# Altium integrated library NSC Interface.IntLib: 1288 symbols (part 9 of 45)
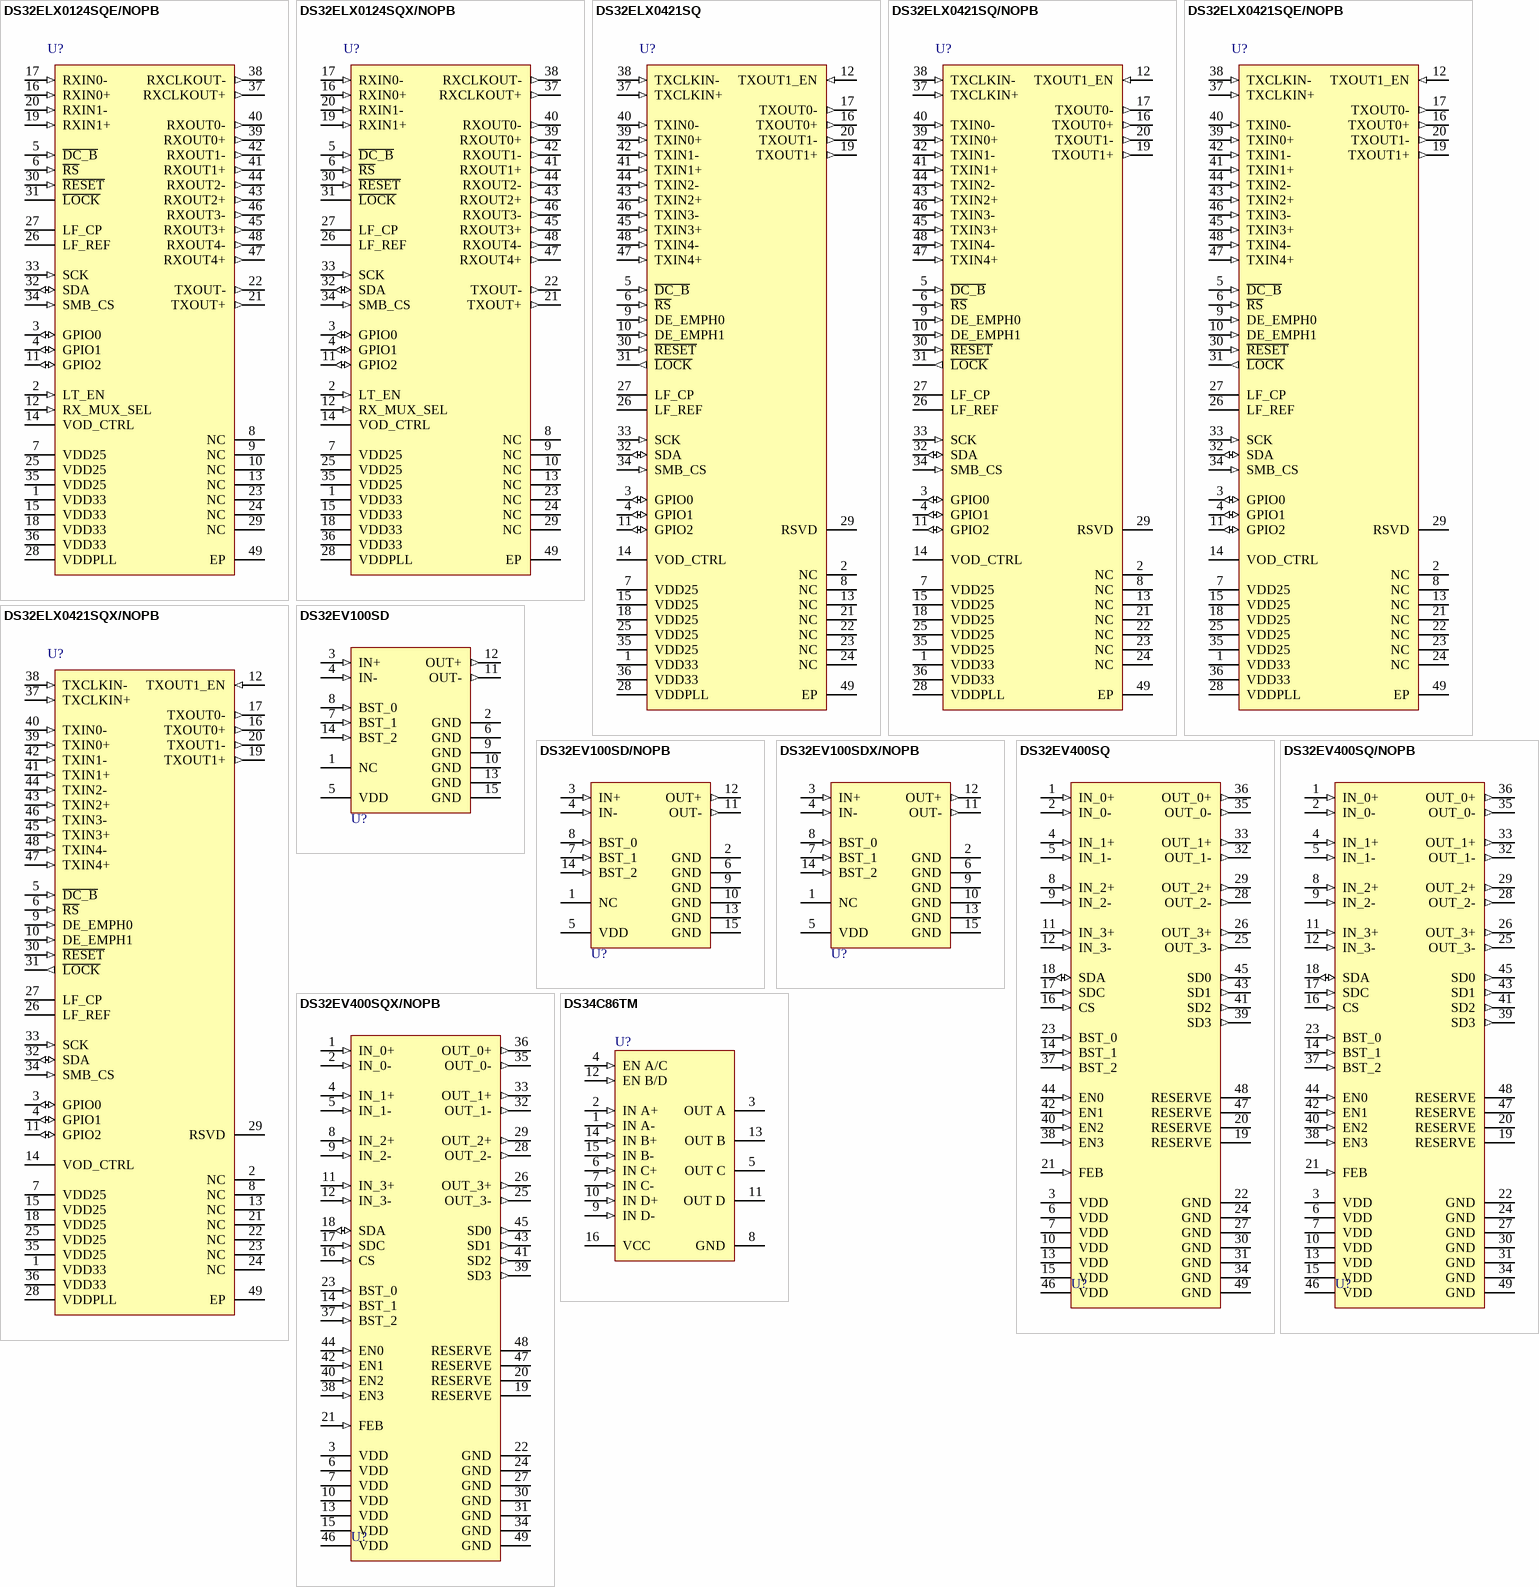
[diagram p120: symbols DS32ELX0124SQE/NOPB to DS34C86TM]

## DS32ELX0421SQ/NOPB
designator U?
125 - 312.5 MHz FPGA-Link Serializer with DDR LVDS Parallel Interface, 48-pin LLP, Pb-Free; PartNumber: DS32ELX0421SQ/NOPB; Manufacturer: National Semiconductor; PackageTopMarking: NS*UZXYTTE#*32ELX0421; PowerWise: N; CompType: Interface IC; Published: 1-Mar-2010; DatasheetVersion: Jul-2008; PackageVersion: revB, May-2009; PackageReference: SQA48A; Publisher: Altium Limited; PackageDescription: LLP, Plastic, Quad, 7 x 7 x 0.8mm Body, 48 Lead, 0.5mm Pitch, No Pullback; Supplier 1: Digi-Key; Supplier Part Number 1: DS32ELX0421SQ-ND; RoHS: Y; PinCount: 48; Code_JEDEC: MO-220-WKKD-2; ComponentLink1Description: DS32ELX0421 Datasheet; ComponentLink1URL: http://www.national.com/ds/DS/DS32ELX0421.pdf; ComponentLink2Description: DS32ELX0421 Web Page; ComponentLink2URL: http://www.national.com/pf/DS/DS32ELX0421.html; ComponentLink3Description: SQA48A Package Page; ComponentLink3URL: http://www.national.com/packaging/folders/sqa48a.html
footprint SQA48A (QFN, 48-Leads, Body 7x7mm, Pitch 0.5mm, NSC Recommended)
pins: 1 VDD33 (power), 2 NC, 3 GPIO0 (io), 4 GPIO1 (io), 5 ~{DC_B} (in), 6 ~{RS} (in), 7 VDD25 (power), 8 NC, 9 DE_EMPH0 (in), 10 DE_EMPH1 (in), 11 GPIO2 (io), 12 TXOUT1_EN (in), 13 NC, 14 VOD_CTRL, 15 VDD25 (power), 16 TXOUT0+ (out), 17 TXOUT0- (out), 18 VDD25 (power), 19 TXOUT1+ (out), 20 TXOUT1- (out), 21 NC, 22 NC, 23 NC, 24 NC, 25 VDD25 (power), 26 LF_REF, 27 LF_CP, 28 VDDPLL (power), 29 RSVD, 30 ~{RESET} (in), 31 ~{LOCK} (out), 32 SDA (io), 33 SCK (in), 34 SMB_CS (in), 35 VDD25 (power), 36 VDD33 (power), 37 TXCLKIN+ (in), 38 TXCLKIN- (in), 39 TXIN0+ (in), 40 TXIN0- (in), 41 TXIN1+ (in), 42 TXIN1- (in), 43 TXIN2+ (in), 44 TXIN2- (in), 45 TXIN3+ (in), 46 TXIN3- (in), 47 TXIN4+ (in), 48 TXIN4- (in), 49 EP (power)

## DS32ELX0421SQE/NOPB
designator U?
125 - 312.5 MHz FPGA-Link Serializer with DDR LVDS Parallel Interface, 48-pin LLP, Pb-Free; PartNumber: DS32ELX0421SQE/NOPB; Manufacturer: National Semiconductor; PackageTopMarking: NS*UZXYTTE#*32ELX0421; PowerWise: N; CompType: Interface IC; Published: 1-Mar-2010; DatasheetVersion: Jul-2008; PackageVersion: revB, May-2009; PackageReference: SQA48A; Publisher: Altium Limited; PackageDescription: LLP, Plastic, Quad, 7 x 7 x 0.8mm Body, 48 Lead, 0.5mm Pitch, No Pullback; Supplier 1: Digi-Key; Supplier Part Number 1: DS32ELX0421SQETR-ND; Supplier 2: Digi-Key; Supplier Part Number 2: DS32ELX0421SQECT-ND; Supplier 3: Digi-Key; Supplier Part Number 3: DS32ELX0421SQEDKR-ND; RoHS: Y; PinCount: 48; Code_JEDEC: MO-220-WKKD-2; ComponentLink1Description: DS32ELX0421 Datasheet; ComponentLink1URL: http://www.national.com/ds/DS/DS32ELX0421.pdf; ComponentLink2Description: DS32ELX0421 Web Page; ComponentLink2URL: http://www.national.com/pf/DS/DS32ELX0421.html; ComponentLink3Description: SQA48A Package Page; ComponentLink3URL: http://www.national.com/packaging/folders/sqa48a.html
footprint SQA48A (QFN, 48-Leads, Body 7x7mm, Pitch 0.5mm, NSC Recommended)
pins: 1 VDD33 (power), 2 NC, 3 GPIO0 (io), 4 GPIO1 (io), 5 ~{DC_B} (in), 6 ~{RS} (in), 7 VDD25 (power), 8 NC, 9 DE_EMPH0 (in), 10 DE_EMPH1 (in), 11 GPIO2 (io), 12 TXOUT1_EN (in), 13 NC, 14 VOD_CTRL, 15 VDD25 (power), 16 TXOUT0+ (out), 17 TXOUT0- (out), 18 VDD25 (power), 19 TXOUT1+ (out), 20 TXOUT1- (out), 21 NC, 22 NC, 23 NC, 24 NC, 25 VDD25 (power), 26 LF_REF, 27 LF_CP, 28 VDDPLL (power), 29 RSVD, 30 ~{RESET} (in), 31 ~{LOCK} (out), 32 SDA (io), 33 SCK (in), 34 SMB_CS (in), 35 VDD25 (power), 36 VDD33 (power), 37 TXCLKIN+ (in), 38 TXCLKIN- (in), 39 TXIN0+ (in), 40 TXIN0- (in), 41 TXIN1+ (in), 42 TXIN1- (in), 43 TXIN2+ (in), 44 TXIN2- (in), 45 TXIN3+ (in), 46 TXIN3- (in), 47 TXIN4+ (in), 48 TXIN4- (in), 49 EP (power)

## DS32ELX0421SQX/NOPB
designator U?
125 - 312.5 MHz FPGA-Link Serializer with DDR LVDS Parallel Interface, 48-pin LLP, Pb-Free; PartNumber: DS32ELX0421SQX/NOPB; Manufacturer: National Semiconductor; PackageTopMarking: NS*UZXYTTE#*32ELX0421; PowerWise: N; CompType: Interface IC; Published: 1-Mar-2010; DatasheetVersion: Jul-2008; PackageVersion: revB, May-2009; PackageReference: SQA48A; Publisher: Altium Limited; PackageDescription: LLP, Plastic, Quad, 7 x 7 x 0.8mm Body, 48 Lead, 0.5mm Pitch, No Pullback; Supplier 1: Digi-Key; Supplier Part Number 1: DS32ELX0421SQX-ND; RoHS: Y; PinCount: 48; Code_JEDEC: MO-220-WKKD-2; ComponentLink1Description: DS32ELX0421 Datasheet; ComponentLink1URL: http://www.national.com/ds/DS/DS32ELX0421.pdf; ComponentLink2Description: DS32ELX0421 Web Page; ComponentLink2URL: http://www.national.com/pf/DS/DS32ELX0421.html; ComponentLink3Description: SQA48A Package Page; ComponentLink3URL: http://www.national.com/packaging/folders/sqa48a.html
footprint SQA48A (QFN, 48-Leads, Body 7x7mm, Pitch 0.5mm, NSC Recommended)
pins: 1 VDD33 (power), 2 NC, 3 GPIO0 (io), 4 GPIO1 (io), 5 ~{DC_B} (in), 6 ~{RS} (in), 7 VDD25 (power), 8 NC, 9 DE_EMPH0 (in), 10 DE_EMPH1 (in), 11 GPIO2 (io), 12 TXOUT1_EN (in), 13 NC, 14 VOD_CTRL, 15 VDD25 (power), 16 TXOUT0+ (out), 17 TXOUT0- (out), 18 VDD25 (power), 19 TXOUT1+ (out), 20 TXOUT1- (out), 21 NC, 22 NC, 23 NC, 24 NC, 25 VDD25 (power), 26 LF_REF, 27 LF_CP, 28 VDDPLL (power), 29 RSVD, 30 ~{RESET} (in), 31 ~{LOCK} (out), 32 SDA (io), 33 SCK (in), 34 SMB_CS (in), 35 VDD25 (power), 36 VDD33 (power), 37 TXCLKIN+ (in), 38 TXCLKIN- (in), 39 TXIN0+ (in), 40 TXIN0- (in), 41 TXIN1+ (in), 42 TXIN1- (in), 43 TXIN2+ (in), 44 TXIN2- (in), 45 TXIN3+ (in), 46 TXIN3- (in), 47 TXIN4+ (in), 48 TXIN4- (in), 49 EP (power)

## DS32EV100SD
designator U?
Programmable Single Equalizer, 14-pin LLP; PartNumber: DS32EV100SD; Manufacturer: National Semiconductor; PackageTopMarking: ZXYTT*D32E1SD; PowerWise: N; CompType: Interface IC; Published: 4-Dec-2008; DatasheetVersion: Aug-2009; PackageVersion: revA, Jun-2003; PackageReference: SDA14A; Publisher: Altium Limited; PackageDescription: LLP, Plastic, Dual, 4 x 3 x 0.8mm Body, 14 Lead, 0.5mm Pitch, No Pullback; RoHS: Y; PinCount: 14; ComponentLink1Description: DS32EV100 Datasheet; ComponentLink1URL: http://www.national.com/ds/DS/DS32EV100.pdf; ComponentLink2Description: DS32EV100 Web Page; ComponentLink2URL: http://www.national.com/pf/DS/DS32EV100.html; ComponentLink3Description: SDA14A Package Page; ComponentLink3URL: http://www.national.com/packaging/folders/sda14a.html
footprint SDA14A (SON, 14-Leads, Body 4x3mm, Pitch 0.5mm, NSC Recommended)
pins: 1 NC, 2 GND (power), 3 IN+ (in), 4 IN- (in), 5 VDD (power), 6 GND (power), 7 BST_1 (in), 8 BST_0 (in), 9 GND (power), 10 GND (power), 11 OUT- (out), 12 OUT+ (out), 13 GND (power), 14 BST_2 (in), 15 GND (power)

## DS32EV100SD/NOPB
designator U?
Programmable Single Equalizer, 14-pin LLP, Pb-Free; PartNumber: DS32EV100SD/NOPB; Manufacturer: National Semiconductor; PowerWise: N; CompType: Interface IC; Published: 1-Mar-2010; DatasheetVersion: Aug-2009; PackageVersion: revA, Jun-2003; PackageReference: SDA14A; Publisher: Altium Limited; PackageDescription: LLP, Plastic, Dual, 4 x 3 x 0.8mm Body, 14 Lead, 0.5mm Pitch, No Pullback; Supplier 1: Digi-Key; Supplier Part Number 1: DS32EV100SDTR-ND; Supplier 2: Digi-Key; Supplier Part Number 2: DS32EV100SDCT-ND; Supplier 3: Digi-Key; Supplier Part Number 3: DS32EV100SDDKR-ND; RoHS: Y; PinCount: 14; ComponentLink1Description: DS32EV100 Datasheet; ComponentLink1URL: http://www.national.com/ds/DS/DS32EV100.pdf; ComponentLink2Description: DS32EV100 Web Page; ComponentLink2URL: http://www.national.com/pf/DS/DS32EV100.html; ComponentLink3Description: SDA14A Package Page; ComponentLink3URL: http://www.national.com/packaging/folders/sda14a.html
footprint SDA14A (SON, 14-Leads, Body 4x3mm, Pitch 0.5mm, NSC Recommended)
pins: 1 NC, 2 GND (power), 3 IN+ (in), 4 IN- (in), 5 VDD (power), 6 GND (power), 7 BST_1 (in), 8 BST_0 (in), 9 GND (power), 10 GND (power), 11 OUT- (out), 12 OUT+ (out), 13 GND (power), 14 BST_2 (in), 15 GND (power)

## DS32EV100SDX/NOPB
designator U?
Programmable Single Equalizer, 14-pin LLP, Pb-Free; PartNumber: DS32EV100SDX/NOPB; Manufacturer: National Semiconductor; PowerWise: N; CompType: Interface IC; Published: 1-Mar-2010; DatasheetVersion: Aug-2009; PackageVersion: revA, Jun-2003; PackageReference: SDA14A; Publisher: Altium Limited; PackageDescription: LLP, Plastic, Dual, 4 x 3 x 0.8mm Body, 14 Lead, 0.5mm Pitch, No Pullback; Supplier 1: Digi-Key; Supplier Part Number 1: DS32EV100SDX-ND; RoHS: Y; PinCount: 14; ComponentLink1Description: DS32EV100 Datasheet; ComponentLink1URL: http://www.national.com/ds/DS/DS32EV100.pdf; ComponentLink2Description: DS32EV100 Web Page; ComponentLink2URL: http://www.national.com/pf/DS/DS32EV100.html; ComponentLink3Description: SDA14A Package Page; ComponentLink3URL: http://www.national.com/packaging/folders/sda14a.html
footprint SDA14A (SON, 14-Leads, Body 4x3mm, Pitch 0.5mm, NSC Recommended)
pins: 1 NC, 2 GND (power), 3 IN+ (in), 4 IN- (in), 5 VDD (power), 6 GND (power), 7 BST_1 (in), 8 BST_0 (in), 9 GND (power), 10 GND (power), 11 OUT- (out), 12 OUT+ (out), 13 GND (power), 14 BST_2 (in), 15 GND (power)

## DS32EV400SQ
designator U?
Programmable Quad Equalizer, 48-pin LLP; PartNumber: DS32EV400SQ; Manufacturer: National Semiconductor; PackageTopMarking: NS*UZXYTT*DS32EV400; PowerWise: Y; CompType: Interface IC; Published: 4-Dec-2008; DatasheetVersion: Oct-2009; PackageVersion: revA, Jul-2004; PackageReference: SQA48D; Publisher: Altium Limited; PackageDescription: LLP, Quad, 7 x 7 x 0.8mm, 48 Lead, 0.5mm Pitch, 4.1 x 4.1 Exposed Pad; RoHS: Y; PinCount: 48; ComponentLink1Description: DS32EV400 Datasheet; ComponentLink1URL: http://www.national.com/ds/DS/DS32EV400.pdf; ComponentLink2Description: DS32EV400 Web Page; ComponentLink2URL: http://www.national.com/pf/DS/DS32EV400.html; ComponentLink3Description: SQA48D Package Page; ComponentLink3URL: http://www.national.com/packaging/folders/sqa48d.html
footprint SQA48D (QFN, 48-Leads, Body 7x7mm, Pitch 0.5mm, NSC Recommended)
pins: 1 IN_0+ (in), 2 IN_0- (in), 3 VDD (power), 4 IN_1+ (in), 5 IN_1- (in), 6 VDD (power), 7 VDD (power), 8 IN_2+ (in), 9 IN_2- (in), 10 VDD (power), 11 IN_3+ (in), 12 IN_3- (in), 13 VDD (power), 14 BST_1 (in), 15 VDD (power), 16 CS (in), 17 SDC (in), 18 SDA (io), 19 RESERVE, 20 RESERVE, 21 FEB (in), 22 GND (power), 23 BST_0 (in), 24 GND (power), 25 OUT_3- (out), 26 OUT_3+ (out), 27 GND (power), 28 OUT_2- (out), 29 OUT_2+ (out), 30 GND (power), 31 GND (power), 32 OUT_1- (out), 33 OUT_1+ (out), 34 GND (power), 35 OUT_0- (out), 36 OUT_0+ (out), 37 BST_2 (in), 38 EN3 (in), 39 SD3 (out), 40 EN2 (in), 41 SD2 (out), 42 EN1 (in), 43 SD1 (out), 44 EN0 (in), 45 SD0 (out), 46 VDD (power), 47 RESERVE, 48 RESERVE, 49 GND (power)

## DS32EV400SQ/NOPB
designator U?
DisplayPort Quad Equalizer, 48-pin LLP, Pb-Free; PartNumber: DS32EV400SQ/NOPB; Manufacturer: National Semiconductor; PackageTopMarking: NS*UZXYTTE#*DS32EV400; PowerWise: Y; CompType: Interface IC; Published: 1-Mar-2010; DatasheetVersion: Oct-2009; PackageVersion: revA, Jul-2004; PackageReference: SQA48D; Publisher: Altium Limited; PackageDescription: LLP, Quad, 7 x 7 x 0.8mm, 48 Lead, 0.5mm Pitch, 4.1 x 4.1 Exposed Pad; Supplier 1: Digi-Key; Supplier Part Number 1: DS32EV400SQTR-ND; Supplier 2: Digi-Key; Supplier Part Number 2: DS32EV400SQCT-ND; Supplier 3: Digi-Key; Supplier Part Number 3: DS32EV400SQDKR-ND; Supplier 4: Farnell; Supplier Part Number 4: 1685566; RoHS: Y; PinCount: 48; ComponentLink1Description: DS32EV400 Datasheet; ComponentLink1URL: http://www.national.com/ds/DS/DS32EV400.pdf; ComponentLink2Description: DS32EV400 Web Page; ComponentLink2URL: http://www.national.com/pf/DS/DS32EV400.html; ComponentLink3Description: SQA48D Package Page; ComponentLink3URL: http://www.national.com/packaging/folders/sqa48d.html
footprint SQA48D (QFN, 48-Leads, Body 7x7mm, Pitch 0.5mm, NSC Recommended)
pins: 1 IN_0+ (in), 2 IN_0- (in), 3 VDD (power), 4 IN_1+ (in), 5 IN_1- (in), 6 VDD (power), 7 VDD (power), 8 IN_2+ (in), 9 IN_2- (in), 10 VDD (power), 11 IN_3+ (in), 12 IN_3- (in), 13 VDD (power), 14 BST_1 (in), 15 VDD (power), 16 CS (in), 17 SDC (in), 18 SDA (io), 19 RESERVE, 20 RESERVE, 21 FEB (in), 22 GND (power), 23 BST_0 (in), 24 GND (power), 25 OUT_3- (out), 26 OUT_3+ (out), 27 GND (power), 28 OUT_2- (out), 29 OUT_2+ (out), 30 GND (power), 31 GND (power), 32 OUT_1- (out), 33 OUT_1+ (out), 34 GND (power), 35 OUT_0- (out), 36 OUT_0+ (out), 37 BST_2 (in), 38 EN3 (in), 39 SD3 (out), 40 EN2 (in), 41 SD2 (out), 42 EN1 (in), 43 SD1 (out), 44 EN0 (in), 45 SD0 (out), 46 VDD (power), 47 RESERVE, 48 RESERVE, 49 GND (power)

## DS32EV400SQX/NOPB
designator U?
DisplayPort Quad Equalizer, 48-pin LLP, Pb-Free; PartNumber: DS32EV400SQX/NOPB; Manufacturer: National Semiconductor; PackageTopMarking: NS*UZXYTTE#*DS32EV400; PowerWise: Y; CompType: Interface IC; Published: 1-Mar-2010; DatasheetVersion: Oct-2009; PackageVersion: revA, Jul-2004; PackageReference: SQA48D; Publisher: Altium Limited; PackageDescription: LLP, Quad, 7 x 7 x 0.8mm, 48 Lead, 0.5mm Pitch, 4.1 x 4.1 Exposed Pad; Supplier 1: Digi-Key; Supplier Part Number 1: DS32EV400SQX-ND; RoHS: Y; PinCount: 48; ComponentLink1Description: DS32EV400 Datasheet; ComponentLink1URL: http://www.national.com/ds/DS/DS32EV400.pdf; ComponentLink2Description: DS32EV400 Web Page; ComponentLink2URL: http://www.national.com/pf/DS/DS32EV400.html; ComponentLink3Description: SQA48D Package Page; ComponentLink3URL: http://www.national.com/packaging/folders/sqa48d.html
footprint SQA48D (QFN, 48-Leads, Body 7x7mm, Pitch 0.5mm, NSC Recommended)
pins: 1 IN_0+ (in), 2 IN_0- (in), 3 VDD (power), 4 IN_1+ (in), 5 IN_1- (in), 6 VDD (power), 7 VDD (power), 8 IN_2+ (in), 9 IN_2- (in), 10 VDD (power), 11 IN_3+ (in), 12 IN_3- (in), 13 VDD (power), 14 BST_1 (in), 15 VDD (power), 16 CS (in), 17 SDC (in), 18 SDA (io), 19 RESERVE, 20 RESERVE, 21 FEB (in), 22 GND (power), 23 BST_0 (in), 24 GND (power), 25 OUT_3- (out), 26 OUT_3+ (out), 27 GND (power), 28 OUT_2- (out), 29 OUT_2+ (out), 30 GND (power), 31 GND (power), 32 OUT_1- (out), 33 OUT_1+ (out), 34 GND (power), 35 OUT_0- (out), 36 OUT_0+ (out), 37 BST_2 (in), 38 EN3 (in), 39 SD3 (out), 40 EN2 (in), 41 SD2 (out), 42 EN1 (in), 43 SD1 (out), 44 EN0 (in), 45 SD0 (out), 46 VDD (power), 47 RESERVE, 48 RESERVE, 49 GND (power)

## DS34C86TM
designator U?
Quad CMOS Differential Line Receiver, 16-pin Narrow SOIC; PartNumber: DS34C86TM; Manufacturer: National Semiconductor; PackageTopMarking: NSUZXYTTE#*DS34C86TM; PowerWise: N; CompType: Interface IC; Published: 4-Dec-2008; DatasheetVersion: Jun-1998; PackageVersion: revJ, Aug-1995; PackageReference: M16A; Publisher: Altium Limited; PackageDescription: Molded Package, SO, .150in Wide, 16 Lead; Supplier 1: Farnell; Supplier Part Number 1: 9487980; RoHS: N; PinCount: 16; Code_JEDEC: MS-012-AC; Code_IPC: SOIC127P600-16; ComponentLink1Description: DS34C86T Datasheet; ComponentLink1URL: http://www.national.com/ds/DS/DS34C86T.pdf; ComponentLink2Description: DS34C86T Web Page; ComponentLink2URL: http://www.national.com/pf/DS/DS34C86T.html; ComponentLink3Description: M16A Package Page; ComponentLink3URL: http://www.national.com/packaging/folders/m16a.html
footprint M16A_N (SOIC, 16-Leads, Body 9.9x3.9mm, Pitch 1.27mm, IPC Medium Density)
footprint M16A_L (SOIC, 16-Leads, Body 9.9x3.9mm, Pitch 1.27mm, IPC High Density)
footprint M16A_M (SOIC, 16-Leads, Body 9.9x3.9mm, Pitch 1.27mm, IPC Low Density)
pins: 1 IN A- (in), 2 IN A+ (in), 3 OUT A (hiz), 4 EN A/C (in), 5 OUT C (hiz), 6 IN C+ (in), 7 IN C- (in), 8 GND (power), 9 IN D- (in), 10 IN D+ (in), 11 OUT D (hiz), 12 EN B/D (in), 13 OUT B (hiz), 14 IN B+ (in), 15 IN B- (in), 16 VCC (power)

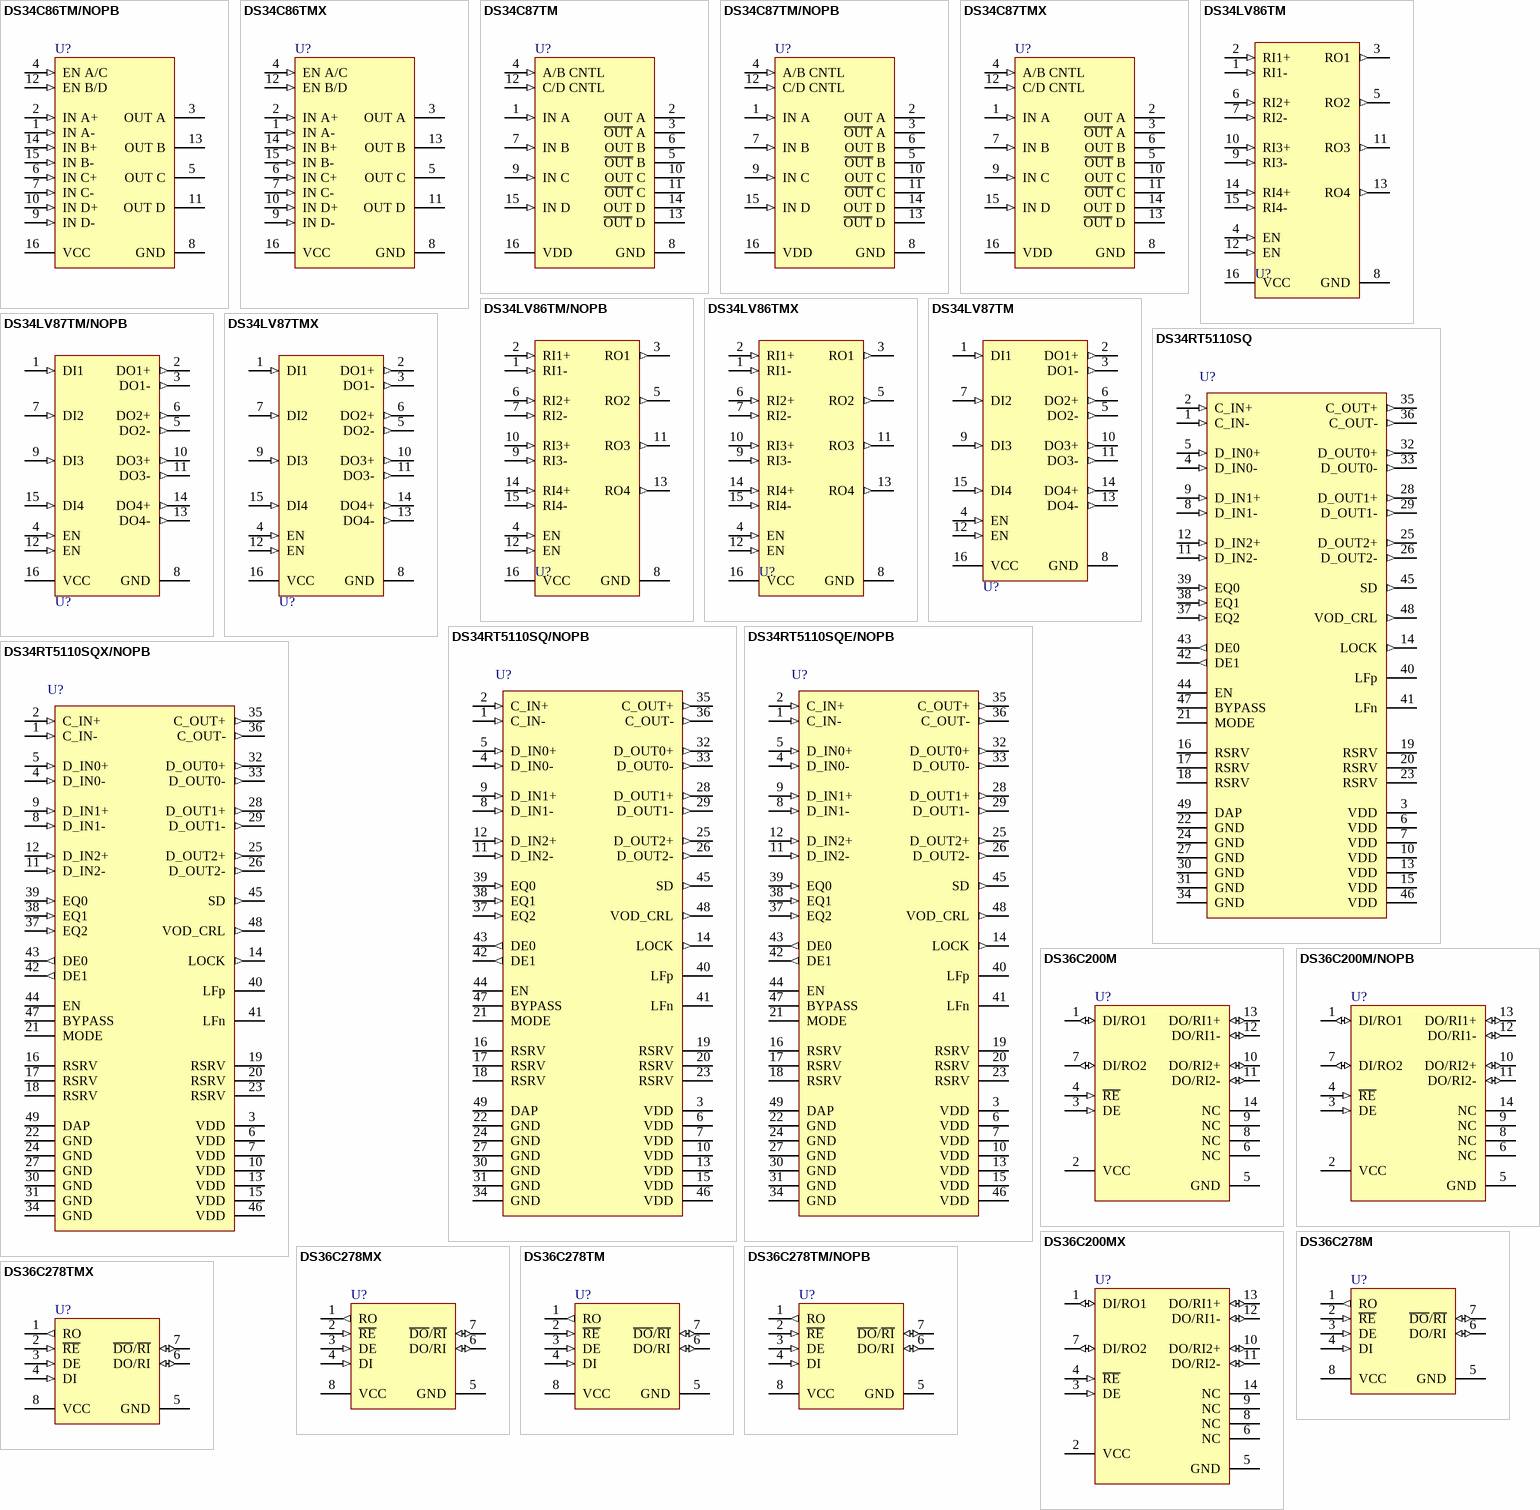
[diagram p22: symbols DS34C86TM/NOPB to DS36C278TMX]

## DS34C86TM/NOPB
designator U?
Quad CMOS Differential Line Receiver, 16-pin Narrow SOIC, Pb-Free; PartNumber: DS34C86TM/NOPB; Manufacturer: National Semiconductor; PackageTopMarking: NSUZXYTTE#*DS34C86TM; PowerWise: N; CompType: Interface IC; Published: 1-Mar-2010; DatasheetVersion: Jun-1998; PackageVersion: revJ, Aug-1995; PackageReference: M16A; Publisher: Altium Limited; PackageDescription: Molded Package, SO, .150in Wide, 16 Lead; Supplier 1: Digi-Key; Supplier Part Number 1: DS34C86TM-ND; Supplier 2: Farnell; Supplier Part Number 2: 1149950; RoHS: Y; PinCount: 16; Code_JEDEC: MS-012-AC; Code_IPC: SOIC127P600-16; ComponentLink1Description: DS34C86T Datasheet; ComponentLink1URL: http://www.national.com/ds/DS/DS34C86T.pdf; ComponentLink2Description: DS34C86T Web Page; ComponentLink2URL: http://www.national.com/pf/DS/DS34C86T.html; ComponentLink3Description: M16A Package Page; ComponentLink3URL: http://www.national.com/packaging/folders/m16a.html
footprint M16A_N (SOIC, 16-Leads, Body 9.9x3.9mm, Pitch 1.27mm, IPC Medium Density)
footprint M16A_L (SOIC, 16-Leads, Body 9.9x3.9mm, Pitch 1.27mm, IPC High Density)
footprint M16A_M (SOIC, 16-Leads, Body 9.9x3.9mm, Pitch 1.27mm, IPC Low Density)
pins: 1 IN A- (in), 2 IN A+ (in), 3 OUT A (hiz), 4 EN A/C (in), 5 OUT C (hiz), 6 IN C+ (in), 7 IN C- (in), 8 GND (power), 9 IN D- (in), 10 IN D+ (in), 11 OUT D (hiz), 12 EN B/D (in), 13 OUT B (hiz), 14 IN B+ (in), 15 IN B- (in), 16 VCC (power)

## DS34C86TMX
designator U?
Quad CMOS Differential Line Receiver, 16-pin Narrow SOIC; PartNumber: DS34C86TMX; Manufacturer: National Semiconductor; PackageTopMarking: NSUZXYTTE#*DS34C86TM; PowerWise: N; CompType: Interface IC; Published: 1-Mar-2010; DatasheetVersion: Jun-1998; PackageVersion: revJ, Aug-1995; PackageReference: M16A; Publisher: Altium Limited; PackageDescription: Molded Package, SO, .150in Wide, 16 Lead; RoHS: N; PinCount: 16; Code_JEDEC: MS-012-AC; Code_IPC: SOIC127P600-16; ComponentLink1Description: DS34C86T Datasheet; ComponentLink1URL: http://www.national.com/ds/DS/DS34C86T.pdf; ComponentLink2Description: DS34C86T Web Page; ComponentLink2URL: http://www.national.com/pf/DS/DS34C86T.html; ComponentLink3Description: M16A Package Page; ComponentLink3URL: http://www.national.com/packaging/folders/m16a.html
footprint M16A_N (SOIC, 16-Leads, Body 9.9x3.9mm, Pitch 1.27mm, IPC Medium Density)
footprint M16A_L (SOIC, 16-Leads, Body 9.9x3.9mm, Pitch 1.27mm, IPC High Density)
footprint M16A_M (SOIC, 16-Leads, Body 9.9x3.9mm, Pitch 1.27mm, IPC Low Density)
pins: 1 IN A- (in), 2 IN A+ (in), 3 OUT A (hiz), 4 EN A/C (in), 5 OUT C (hiz), 6 IN C+ (in), 7 IN C- (in), 8 GND (power), 9 IN D- (in), 10 IN D+ (in), 11 OUT D (hiz), 12 EN B/D (in), 13 OUT B (hiz), 14 IN B+ (in), 15 IN B- (in), 16 VCC (power)

## DS34C87TM
designator U?
CMOS Quad Tri-State Differential Line Driver, 16-pin Narrow SOIC; PartNumber: DS34C87TM; Manufacturer: National Semiconductor; PackageTopMarking: NSUZXYTTE#*DS34C87TM; PowerWise: N; CompType: Interface IC; Published: 4-Dec-2008; DatasheetVersion: Apr-2002; PackageVersion: revJ, Aug-1995; PackageReference: M16A; Publisher: Altium Limited; PackageDescription: Molded Package, SO, .150in Wide, 16 Lead; Supplier 1: Farnell; Supplier Part Number 1: 9487875; RoHS: N; PinCount: 16; Code_JEDEC: MS-012-AC; Code_IPC: SOIC127P600-16; ComponentLink1Description: DS34C87T Datasheet; ComponentLink1URL: http://www.national.com/ds/DS/DS34C87T.pdf; ComponentLink2Description: DS34C87T Web Page; ComponentLink2URL: http://www.national.com/pf/DS/DS34C87T.html; ComponentLink3Description: M16A Package Page; ComponentLink3URL: http://www.national.com/packaging/folders/m16a.html
footprint M16A_N (SOIC, 16-Leads, Body 9.9x3.9mm, Pitch 1.27mm, IPC Medium Density)
footprint M16A_L (SOIC, 16-Leads, Body 9.9x3.9mm, Pitch 1.27mm, IPC High Density)
footprint M16A_M (SOIC, 16-Leads, Body 9.9x3.9mm, Pitch 1.27mm, IPC Low Density)
pins: 1 IN A (in), 2 OUT A (hiz), 3 ~{OUT} A (hiz), 4 A/B CNTL (in), 5 ~{OUT} B (hiz), 6 OUT B (hiz), 7 IN B (in), 8 GND (power), 9 IN C (in), 10 OUT C (hiz), 11 ~{OUT} C (hiz), 12 C/D CNTL (in), 13 ~{OUT} D (hiz), 14 OUT D (hiz), 15 IN D (in), 16 VDD (power)

## DS34C87TM/NOPB
designator U?
CMOS Quad Tri-State Differential Line Driver, 16-pin Narrow SOIC, Pb-Free; PartNumber: DS34C87TM/NOPB; Manufacturer: National Semiconductor; PackageTopMarking: NSUZXYTTE#*DS34C87TM; PowerWise: N; CompType: Interface IC; Published: 1-Mar-2010; DatasheetVersion: Apr-2002; PackageVersion: revJ, Aug-1995; PackageReference: M16A; Publisher: Altium Limited; PackageDescription: Molded Package, SO, .150in Wide, 16 Lead; Supplier 1: Digi-Key; Supplier Part Number 1: DS34C87TM-ND; Supplier 2: Farnell; Supplier Part Number 2: 1564611; RoHS: Y; PinCount: 16; Code_JEDEC: MS-012-AC; Code_IPC: SOIC127P600-16; ComponentLink1Description: DS34C87T Datasheet; ComponentLink1URL: http://www.national.com/ds/DS/DS34C87T.pdf; ComponentLink2Description: DS34C87T Web Page; ComponentLink2URL: http://www.national.com/pf/DS/DS34C87T.html; ComponentLink3Description: M16A Package Page; ComponentLink3URL: http://www.national.com/packaging/folders/m16a.html
footprint M16A_N (SOIC, 16-Leads, Body 9.9x3.9mm, Pitch 1.27mm, IPC Medium Density)
footprint M16A_L (SOIC, 16-Leads, Body 9.9x3.9mm, Pitch 1.27mm, IPC High Density)
footprint M16A_M (SOIC, 16-Leads, Body 9.9x3.9mm, Pitch 1.27mm, IPC Low Density)
pins: 1 IN A (in), 2 OUT A (hiz), 3 ~{OUT} A (hiz), 4 A/B CNTL (in), 5 ~{OUT} B (hiz), 6 OUT B (hiz), 7 IN B (in), 8 GND (power), 9 IN C (in), 10 OUT C (hiz), 11 ~{OUT} C (hiz), 12 C/D CNTL (in), 13 ~{OUT} D (hiz), 14 OUT D (hiz), 15 IN D (in), 16 VDD (power)

## DS34C87TMX
designator U?
CMOS Quad Tri-State Differential Line Driver, 16-pin Narrow SOIC; PartNumber: DS34C87TMX; Manufacturer: National Semiconductor; PackageTopMarking: NSUZXYTTE#*DS34C87TM; PowerWise: N; CompType: Interface IC; Published: 1-Mar-2010; DatasheetVersion: Apr-2002; PackageVersion: revJ, Aug-1995; PackageReference: M16A; Publisher: Altium Limited; PackageDescription: Molded Package, SO, .150in Wide, 16 Lead; RoHS: N; PinCount: 16; Code_JEDEC: MS-012-AC; Code_IPC: SOIC127P600-16; ComponentLink1Description: DS34C87T Datasheet; ComponentLink1URL: http://www.national.com/ds/DS/DS34C87T.pdf; ComponentLink2Description: DS34C87T Web Page; ComponentLink2URL: http://www.national.com/pf/DS/DS34C87T.html; ComponentLink3Description: M16A Package Page; ComponentLink3URL: http://www.national.com/packaging/folders/m16a.html
footprint M16A_N (SOIC, 16-Leads, Body 9.9x3.9mm, Pitch 1.27mm, IPC Medium Density)
footprint M16A_L (SOIC, 16-Leads, Body 9.9x3.9mm, Pitch 1.27mm, IPC High Density)
footprint M16A_M (SOIC, 16-Leads, Body 9.9x3.9mm, Pitch 1.27mm, IPC Low Density)
pins: 1 IN A (in), 2 OUT A (hiz), 3 ~{OUT} A (hiz), 4 A/B CNTL (in), 5 ~{OUT} B (hiz), 6 OUT B (hiz), 7 IN B (in), 8 GND (power), 9 IN C (in), 10 OUT C (hiz), 11 ~{OUT} C (hiz), 12 C/D CNTL (in), 13 ~{OUT} D (hiz), 14 OUT D (hiz), 15 IN D (in), 16 VDD (power)

## DS34LV86TM
designator U?
3V Enhanced CMOS Quad Differential Line Receiver, 16-pin Narrow SOIC; PartNumber: DS34LV86TM; Manufacturer: National Semiconductor; PackageTopMarking: NSUZXYTTE#*DS34LV86*TM; PowerWise: N; CompType: Interface IC; Published: 4-Dec-2008; DatasheetVersion: Sep-2008; PackageVersion: revJ, Aug-1995; PackageReference: M16A; Publisher: Altium Limited; PackageDescription: Molded Package, SO, .150in Wide, 16 Lead; RoHS: N; PinCount: 16; Code_JEDEC: MS-012-AC; Code_IPC: SOIC127P600-16; ComponentLink1Description: DS34LV86T Datasheet; ComponentLink1URL: http://www.national.com/ds/DS/DS34LV86T.pdf; ComponentLink2Description: DS34LV86T Web Page; ComponentLink2URL: http://www.national.com/pf/DS/DS34LV86T.html; ComponentLink3Description: M16A Package Page; ComponentLink3URL: http://www.national.com/packaging/folders/m16a.html
footprint M16A_N (SOIC, 16-Leads, Body 9.9x3.9mm, Pitch 1.27mm, IPC Medium Density)
footprint M16A_L (SOIC, 16-Leads, Body 9.9x3.9mm, Pitch 1.27mm, IPC High Density)
footprint M16A_M (SOIC, 16-Leads, Body 9.9x3.9mm, Pitch 1.27mm, IPC Low Density)
pins: 1 RI1- (in), 2 RI1+ (in), 3 RO1 (out), 4 EN (in), 5 RO2 (out), 6 RI2+ (in), 7 RI2- (in), 8 GND (power), 9 RI3- (in), 10 RI3+ (in), 11 RO3 (out), 12 EN (in), 13 RO4 (out), 14 RI4+ (in), 15 RI4- (in), 16 VCC (power)

## DS34LV86TM/NOPB
designator U?
3V Enhanced CMOS Quad Differential Line Receiver, 16-pin Narrow SOIC, Pb-Free; PartNumber: DS34LV86TM/NOPB; Manufacturer: National Semiconductor; PackageTopMarking: NSUZXYTTE#*DS34LV86*TM; PowerWise: N; CompType: Interface IC; Published: 1-Mar-2010; DatasheetVersion: Sep-2008; PackageVersion: revJ, Aug-1995; PackageReference: M16A; Publisher: Altium Limited; PackageDescription: Molded Package, SO, .150in Wide, 16 Lead; Supplier 1: Digi-Key; Supplier Part Number 1: DS34LV86TM-ND; Supplier 2: Farnell; Supplier Part Number 2: 1469000; RoHS: Y; PinCount: 16; Code_JEDEC: MS-012-AC; Code_IPC: SOIC127P600-16; ComponentLink1Description: DS34LV86T Datasheet; ComponentLink1URL: http://www.national.com/ds/DS/DS34LV86T.pdf; ComponentLink2Description: DS34LV86T Web Page; ComponentLink2URL: http://www.national.com/pf/DS/DS34LV86T.html; ComponentLink3Description: M16A Package Page; ComponentLink3URL: http://www.national.com/packaging/folders/m16a.html
footprint M16A_N (SOIC, 16-Leads, Body 9.9x3.9mm, Pitch 1.27mm, IPC Medium Density)
footprint M16A_L (SOIC, 16-Leads, Body 9.9x3.9mm, Pitch 1.27mm, IPC High Density)
footprint M16A_M (SOIC, 16-Leads, Body 9.9x3.9mm, Pitch 1.27mm, IPC Low Density)
pins: 1 RI1- (in), 2 RI1+ (in), 3 RO1 (out), 4 EN (in), 5 RO2 (out), 6 RI2+ (in), 7 RI2- (in), 8 GND (power), 9 RI3- (in), 10 RI3+ (in), 11 RO3 (out), 12 EN (in), 13 RO4 (out), 14 RI4+ (in), 15 RI4- (in), 16 VCC (power)

## DS34LV86TMX
designator U?
3V Enhanced CMOS Quad Differential Line Receiver, 16-pin Narrow SOIC; PartNumber: DS34LV86TMX; Manufacturer: National Semiconductor; PackageTopMarking: NSUZXYTTE#*DS34LV86*TM; PowerWise: N; CompType: Interface IC; Published: 1-Mar-2010; DatasheetVersion: Sep-2008; PackageVersion: revJ, Aug-1995; PackageReference: M16A; Publisher: Altium Limited; PackageDescription: Molded Package, SO, .150in Wide, 16 Lead; RoHS: N; PinCount: 16; Code_JEDEC: MS-012-AC; Code_IPC: SOIC127P600-16; ComponentLink1Description: DS34LV86T Datasheet; ComponentLink1URL: http://www.national.com/ds/DS/DS34LV86T.pdf; ComponentLink2Description: DS34LV86T Web Page; ComponentLink2URL: http://www.national.com/pf/DS/DS34LV86T.html; ComponentLink3Description: M16A Package Page; ComponentLink3URL: http://www.national.com/packaging/folders/m16a.html
footprint M16A_N (SOIC, 16-Leads, Body 9.9x3.9mm, Pitch 1.27mm, IPC Medium Density)
footprint M16A_L (SOIC, 16-Leads, Body 9.9x3.9mm, Pitch 1.27mm, IPC High Density)
footprint M16A_M (SOIC, 16-Leads, Body 9.9x3.9mm, Pitch 1.27mm, IPC Low Density)
pins: 1 RI1- (in), 2 RI1+ (in), 3 RO1 (out), 4 EN (in), 5 RO2 (out), 6 RI2+ (in), 7 RI2- (in), 8 GND (power), 9 RI3- (in), 10 RI3+ (in), 11 RO3 (out), 12 EN (in), 13 RO4 (out), 14 RI4+ (in), 15 RI4- (in), 16 VCC (power)

## DS34LV87TM
designator U?
Enhanced CMOS Quad Differential Line Driver, 16-pin Narrow SOIC; PartNumber: DS34LV87TM; Manufacturer: National Semiconductor; PackageTopMarking: NSUZXYTTE#*DS34LV87*TM; PowerWise: N; CompType: Interface IC; Published: 4-Dec-2008; DatasheetVersion: Nov-2000; PackageVersion: revJ, Aug-1995; PackageReference: M16A; Publisher: Altium Limited; PackageDescription: Molded Package, SO, .150in Wide, 16 Lead; RoHS: N; PinCount: 16; Code_JEDEC: MS-012-AC; Code_IPC: SOIC127P600-16; ComponentLink1Description: DS34LV87T Datasheet; ComponentLink1URL: http://www.national.com/ds/DS/DS34LV87T.pdf; ComponentLink2Description: DS34LV87T Web Page; ComponentLink2URL: http://www.national.com/pf/DS/DS34LV87T.html; ComponentLink3Description: M16A Package Page; ComponentLink3URL: http://www.national.com/packaging/folders/m16a.html
footprint M16A_N (SOIC, 16-Leads, Body 9.9x3.9mm, Pitch 1.27mm, IPC Medium Density)
footprint M16A_L (SOIC, 16-Leads, Body 9.9x3.9mm, Pitch 1.27mm, IPC High Density)
footprint M16A_M (SOIC, 16-Leads, Body 9.9x3.9mm, Pitch 1.27mm, IPC Low Density)
pins: 1 DI1 (in), 2 DO1+ (out), 3 DO1- (out), 4 EN (in), 5 DO2- (out), 6 DO2+ (out), 7 DI2 (in), 8 GND (power), 9 DI3 (in), 10 DO3+ (out), 11 DO3- (out), 12 EN (in), 13 DO4- (out), 14 DO4+ (out), 15 DI4 (in), 16 VCC (power)

## DS34LV87TM/NOPB
designator U?
Enhanced CMOS Quad Differential Line Driver, 16-pin Narrow SOIC, Pb-Free; PartNumber: DS34LV87TM/NOPB; Manufacturer: National Semiconductor; PackageTopMarking: NSUZXYTTE#*DS34LV87*TM; PowerWise: N; CompType: Interface IC; Published: 1-Mar-2010; DatasheetVersion: Nov-2000; PackageVersion: revJ, Aug-1995; PackageReference: M16A; Publisher: Altium Limited; PackageDescription: Molded Package, SO, .150in Wide, 16 Lead; Supplier 1: Digi-Key; Supplier Part Number 1: DS34LV87TM-ND; Supplier 2: Farnell; Supplier Part Number 2: 1468970; RoHS: Y; PinCount: 16; Code_JEDEC: MS-012-AC; Code_IPC: SOIC127P600-16; ComponentLink1Description: DS34LV87T Datasheet; ComponentLink1URL: http://www.national.com/ds/DS/DS34LV87T.pdf; ComponentLink2Description: DS34LV87T Web Page; ComponentLink2URL: http://www.national.com/pf/DS/DS34LV87T.html; ComponentLink3Description: M16A Package Page; ComponentLink3URL: http://www.national.com/packaging/folders/m16a.html
footprint M16A_N (SOIC, 16-Leads, Body 9.9x3.9mm, Pitch 1.27mm, IPC Medium Density)
footprint M16A_L (SOIC, 16-Leads, Body 9.9x3.9mm, Pitch 1.27mm, IPC High Density)
footprint M16A_M (SOIC, 16-Leads, Body 9.9x3.9mm, Pitch 1.27mm, IPC Low Density)
pins: 1 DI1 (in), 2 DO1+ (out), 3 DO1- (out), 4 EN (in), 5 DO2- (out), 6 DO2+ (out), 7 DI2 (in), 8 GND (power), 9 DI3 (in), 10 DO3+ (out), 11 DO3- (out), 12 EN (in), 13 DO4- (out), 14 DO4+ (out), 15 DI4 (in), 16 VCC (power)

## DS34LV87TMX
designator U?
Enhanced CMOS Quad Differential Line Driver, 16-pin Narrow SOIC; PartNumber: DS34LV87TMX; Manufacturer: National Semiconductor; PackageTopMarking: NSUZXYTTE#*DS34LV87*TM; PowerWise: N; CompType: Interface IC; Published: 1-Mar-2010; DatasheetVersion: Nov-2000; PackageVersion: revJ, Aug-1995; PackageReference: M16A; Publisher: Altium Limited; PackageDescription: Molded Package, SO, .150in Wide, 16 Lead; RoHS: N; PinCount: 16; Code_JEDEC: MS-012-AC; Code_IPC: SOIC127P600-16; ComponentLink1Description: DS34LV87T Datasheet; ComponentLink1URL: http://www.national.com/ds/DS/DS34LV87T.pdf; ComponentLink2Description: DS34LV87T Web Page; ComponentLink2URL: http://www.national.com/pf/DS/DS34LV87T.html; ComponentLink3Description: M16A Package Page; ComponentLink3URL: http://www.national.com/packaging/folders/m16a.html
footprint M16A_N (SOIC, 16-Leads, Body 9.9x3.9mm, Pitch 1.27mm, IPC Medium Density)
footprint M16A_L (SOIC, 16-Leads, Body 9.9x3.9mm, Pitch 1.27mm, IPC High Density)
footprint M16A_M (SOIC, 16-Leads, Body 9.9x3.9mm, Pitch 1.27mm, IPC Low Density)
pins: 1 DI1 (in), 2 DO1+ (out), 3 DO1- (out), 4 EN (in), 5 DO2- (out), 6 DO2+ (out), 7 DI2 (in), 8 GND (power), 9 DI3 (in), 10 DO3+ (out), 11 DO3- (out), 12 EN (in), 13 DO4- (out), 14 DO4+ (out), 15 DI4 (in), 16 VCC (power)

## DS34RT5110SQ
designator U?
DVI, HDMI Retimer with Input Equalization and Output De-Emphasis, 48-pin LLP; PartNumber: DS34RT5110SQ; Manufacturer: National Semiconductor; PackageTopMarking: NS*UZXYTT*34RT5110; PowerWise: N; CompType: Interface IC; Published: 29-May-2009; DatasheetVersion: Feb-2010; PackageVersion: revB, May-2009; PackageReference: SQA48A; Publisher: Altium Limited; PackageDescription: LLP, Plastic, Quad, 7 x 7 x 0.8mm Body, 48 Lead, 0.5mm Pitch, No Pullback; RoHS: Y; PinCount: 48; Code_JEDEC: MO-220-WKKD-2; ComponentLink1Description: DS34RT5110 Datasheet; ComponentLink1URL: http://www.national.com/ds/DS/DS34RT5110.pdf; ComponentLink2Description: DS34RT5110 Web Page; ComponentLink2URL: http://www.national.com/pf/DS/DS34RT5110.html; ComponentLink3Description: SQA48A Package Page; ComponentLink3URL: http://www.national.com/packaging/folders/sqa48a.html
footprint SQA48A (QFN, 48-Leads, Body 7x7mm, Pitch 0.5mm, NSC Recommended)
pins: 1 C_IN- (in), 2 C_IN+ (in), 3 VDD (power), 4 D_IN0- (in), 5 D_IN0+ (in), 6 VDD (power), 7 VDD (power), 8 D_IN1- (in), 9 D_IN1+ (in), 10 VDD (power), 11 D_IN2- (in), 12 D_IN2+ (in), 13 VDD (power), 14 LOCK (out), 15 VDD (power), 16 RSRV, 17 RSRV, 18 RSRV, 19 RSRV, 20 RSRV, 21 MODE (power), 22 GND (power), 23 RSRV, 24 GND (power), 25 D_OUT2+ (out), 26 D_OUT2- (out), 27 GND (power), 28 D_OUT1+ (out), 29 D_OUT1- (out), 30 GND (power), 31 GND (power), 32 D_OUT0+ (out), 33 D_OUT0- (out), 34 GND (power), 35 C_OUT+ (out), 36 C_OUT- (out), 37 EQ2 (in), 38 EQ1 (in), 39 EQ0 (in), 40 LFp (power), 41 LFn, 42 DE1 (out), 43 DE0 (out), 44 EN, 45 SD (out), 46 VDD (power), 47 BYPASS, 48 VOD_CRL (out), 49 DAP

## DS34RT5110SQ/NOPB
designator U?
DVI, HDMI Retimer with Input Equalization and Output De-Emphasis, 48-pin LLP, Pb-Free; PartNumber: DS34RT5110SQ/NOPB; Manufacturer: National Semiconductor; PackageTopMarking: NS*UZXYTTE#*34RT5110; PowerWise: N; CompType: Interface IC; Published: 1-Mar-2010; DatasheetVersion: Feb-2010; PackageVersion: revB, May-2009; PackageReference: SQA48A; Publisher: Altium Limited; PackageDescription: LLP, Plastic, Quad, 7 x 7 x 0.8mm Body, 48 Lead, 0.5mm Pitch, No Pullback; Supplier 1: Digi-Key; Supplier Part Number 1: DS34RT5110SQ-ND; RoHS: Y; PinCount: 48; Code_JEDEC: MO-220-WKKD-2; ComponentLink1Description: DS34RT5110 Datasheet; ComponentLink1URL: http://www.national.com/ds/DS/DS34RT5110.pdf; ComponentLink2Description: DS34RT5110 Web Page; ComponentLink2URL: http://www.national.com/pf/DS/DS34RT5110.html; ComponentLink3Description: SQA48A Package Page; ComponentLink3URL: http://www.national.com/packaging/folders/sqa48a.html
footprint SQA48A (QFN, 48-Leads, Body 7x7mm, Pitch 0.5mm, NSC Recommended)
pins: 1 C_IN- (in), 2 C_IN+ (in), 3 VDD (power), 4 D_IN0- (in), 5 D_IN0+ (in), 6 VDD (power), 7 VDD (power), 8 D_IN1- (in), 9 D_IN1+ (in), 10 VDD (power), 11 D_IN2- (in), 12 D_IN2+ (in), 13 VDD (power), 14 LOCK (out), 15 VDD (power), 16 RSRV, 17 RSRV, 18 RSRV, 19 RSRV, 20 RSRV, 21 MODE (power), 22 GND (power), 23 RSRV, 24 GND (power), 25 D_OUT2+ (out), 26 D_OUT2- (out), 27 GND (power), 28 D_OUT1+ (out), 29 D_OUT1- (out), 30 GND (power), 31 GND (power), 32 D_OUT0+ (out), 33 D_OUT0- (out), 34 GND (power), 35 C_OUT+ (out), 36 C_OUT- (out), 37 EQ2 (in), 38 EQ1 (in), 39 EQ0 (in), 40 LFp (power), 41 LFn, 42 DE1 (out), 43 DE0 (out), 44 EN, 45 SD (out), 46 VDD (power), 47 BYPASS, 48 VOD_CRL (out), 49 DAP

## DS34RT5110SQE/NOPB
designator U?
DVI, HDMI Retimer with Input Equalization and Output De-Emphasis, 48-pin LLP, Pb-Free; PartNumber: DS34RT5110SQE/NOPB; Manufacturer: National Semiconductor; PackageTopMarking: NS*UZXYTTE#*34RT5110; PowerWise: N; CompType: Interface IC; Published: 1-Mar-2010; DatasheetVersion: Feb-2010; PackageVersion: revB, May-2009; PackageReference: SQA48A; Publisher: Altium Limited; PackageDescription: LLP, Plastic, Quad, 7 x 7 x 0.8mm Body, 48 Lead, 0.5mm Pitch, No Pullback; Supplier 1: Digi-Key; Supplier Part Number 1: DS34RT5110SQETR-ND; Supplier 2: Digi-Key; Supplier Part Number 2: DS34RT5110SQECT-ND; Supplier 3: Digi-Key; Supplier Part Number 3: DS34RT5110SQEDKR-ND; RoHS: Y; PinCount: 48; Code_JEDEC: MO-220-WKKD-2; ComponentLink1Description: DS34RT5110 Datasheet; ComponentLink1URL: http://www.national.com/ds/DS/DS34RT5110.pdf; ComponentLink2Description: DS34RT5110 Web Page; ComponentLink2URL: http://www.national.com/pf/DS/DS34RT5110.html; ComponentLink3Description: SQA48A Package Page; ComponentLink3URL: http://www.national.com/packaging/folders/sqa48a.html
footprint SQA48A (QFN, 48-Leads, Body 7x7mm, Pitch 0.5mm, NSC Recommended)
pins: 1 C_IN- (in), 2 C_IN+ (in), 3 VDD (power), 4 D_IN0- (in), 5 D_IN0+ (in), 6 VDD (power), 7 VDD (power), 8 D_IN1- (in), 9 D_IN1+ (in), 10 VDD (power), 11 D_IN2- (in), 12 D_IN2+ (in), 13 VDD (power), 14 LOCK (out), 15 VDD (power), 16 RSRV, 17 RSRV, 18 RSRV, 19 RSRV, 20 RSRV, 21 MODE (power), 22 GND (power), 23 RSRV, 24 GND (power), 25 D_OUT2+ (out), 26 D_OUT2- (out), 27 GND (power), 28 D_OUT1+ (out), 29 D_OUT1- (out), 30 GND (power), 31 GND (power), 32 D_OUT0+ (out), 33 D_OUT0- (out), 34 GND (power), 35 C_OUT+ (out), 36 C_OUT- (out), 37 EQ2 (in), 38 EQ1 (in), 39 EQ0 (in), 40 LFp (power), 41 LFn, 42 DE1 (out), 43 DE0 (out), 44 EN, 45 SD (out), 46 VDD (power), 47 BYPASS, 48 VOD_CRL (out), 49 DAP

## DS34RT5110SQX/NOPB
designator U?
DVI, HDMI Retimer with Input Equalization and Output De-Emphasis, 48-pin LLP, Pb-Free; PartNumber: DS34RT5110SQX/NOPB; Manufacturer: National Semiconductor; PackageTopMarking: NS*UZXYTTE#*34RT5110; PowerWise: N; CompType: Interface IC; Published: 1-Mar-2010; DatasheetVersion: Feb-2010; PackageVersion: revB, May-2009; PackageReference: SQA48A; Publisher: Altium Limited; PackageDescription: LLP, Plastic, Quad, 7 x 7 x 0.8mm Body, 48 Lead, 0.5mm Pitch, No Pullback; Supplier 1: Digi-Key; Supplier Part Number 1: DS34RT5110SQX-ND; RoHS: Y; PinCount: 48; Code_JEDEC: MO-220-WKKD-2; ComponentLink1Description: DS34RT5110 Datasheet; ComponentLink1URL: http://www.national.com/ds/DS/DS34RT5110.pdf; ComponentLink2Description: DS34RT5110 Web Page; ComponentLink2URL: http://www.national.com/pf/DS/DS34RT5110.html; ComponentLink3Description: SQA48A Package Page; ComponentLink3URL: http://www.national.com/packaging/folders/sqa48a.html
footprint SQA48A (QFN, 48-Leads, Body 7x7mm, Pitch 0.5mm, NSC Recommended)
pins: 1 C_IN- (in), 2 C_IN+ (in), 3 VDD (power), 4 D_IN0- (in), 5 D_IN0+ (in), 6 VDD (power), 7 VDD (power), 8 D_IN1- (in), 9 D_IN1+ (in), 10 VDD (power), 11 D_IN2- (in), 12 D_IN2+ (in), 13 VDD (power), 14 LOCK (out), 15 VDD (power), 16 RSRV, 17 RSRV, 18 RSRV, 19 RSRV, 20 RSRV, 21 MODE (power), 22 GND (power), 23 RSRV, 24 GND (power), 25 D_OUT2+ (out), 26 D_OUT2- (out), 27 GND (power), 28 D_OUT1+ (out), 29 D_OUT1- (out), 30 GND (power), 31 GND (power), 32 D_OUT0+ (out), 33 D_OUT0- (out), 34 GND (power), 35 C_OUT+ (out), 36 C_OUT- (out), 37 EQ2 (in), 38 EQ1 (in), 39 EQ0 (in), 40 LFp (power), 41 LFn, 42 DE1 (out), 43 DE0 (out), 44 EN, 45 SD (out), 46 VDD (power), 47 BYPASS, 48 VOD_CRL (out), 49 DAP

## DS36C200M
designator U?
Dual High Speed Bi-Directional Differential Transceiver, 14-pin Narrow SOIC; PartNumber: DS36C200M; Manufacturer: National Semiconductor; PackageTopMarking: NSUZXYTTE#*DS36C200M; PowerWise: N; CompType: Interface IC; Published: 4-Dec-2008; DatasheetVersion: Feb-2005; PackageVersion: revJ, Jan-1996; PackageReference: M14A; Publisher: Altium Limited; PackageDescription: Molded Package S.O., .150in Wide, 14 Lead; Supplier 1: Farnell; Supplier Part Number 1: 9494189; RoHS: N; PinCount: 14; Code_JEDEC: MS-012AB; Code_IPC: SOIC127P600-14; ComponentLink1Description: DS36C200 Datasheet; ComponentLink1URL: http://www.national.com/ds/DS/DS36C200.pdf; ComponentLink2Description: DS36C200 Web Page; ComponentLink2URL: http://www.national.com/pf/DS/DS36C200.html; ComponentLink3Description: M14A Package Page; ComponentLink3URL: http://www.national.com/packaging/folders/m14a.html
footprint M14A_N (SOIC, 14-Leads, Body 8.6x3.9mm, Pitch 1.27mm, IPC Medium Density)
footprint M14A_L (SOIC, 14-Leads, Body 8.6x3.9mm, Pitch 1.27mm, IPC High Density)
footprint M14A_M (SOIC, 14-Leads, Body 8.6x3.9mm, Pitch 1.27mm, IPC Low Density)
pins: 1 DI/RO1 (io), 2 VCC (power), 3 DE (in), 4 ~{RE} (in), 5 GND (power), 6 NC, 7 DI/RO2 (io), 8 NC, 9 NC, 10 DO/RI2+ (io), 11 DO/RI2- (io), 12 DO/RI1- (io), 13 DO/RI1+ (io), 14 NC

## DS36C200M/NOPB
designator U?
Dual High Speed Bi-Directional Differential Transceiver, 14-pin Narrow SOIC, Pb-Free; PartNumber: DS36C200M/NOPB; Manufacturer: National Semiconductor; PackageTopMarking: NSUZXYTTE#*DS36C200M; PowerWise: N; CompType: Interface IC; Published: 1-Mar-2010; DatasheetVersion: Feb-2005; PackageVersion: revJ, Jan-1996; PackageReference: M14A; Publisher: Altium Limited; PackageDescription: Molded Package S.O., .150in Wide, 14 Lead; Supplier 1: Digi-Key; Supplier Part Number 1: DS36C200M-ND; Supplier 2: Farnell; Supplier Part Number 2: 1254221; RoHS: Y; PinCount: 14; Code_JEDEC: MS-012AB; Code_IPC: SOIC127P600-14; ComponentLink1Description: DS36C200 Datasheet; ComponentLink1URL: http://www.national.com/ds/DS/DS36C200.pdf; ComponentLink2Description: DS36C200 Web Page; ComponentLink2URL: http://www.national.com/pf/DS/DS36C200.html; ComponentLink3Description: M14A Package Page; ComponentLink3URL: http://www.national.com/packaging/folders/m14a.html
footprint M14A_N (SOIC, 14-Leads, Body 8.6x3.9mm, Pitch 1.27mm, IPC Medium Density)
footprint M14A_L (SOIC, 14-Leads, Body 8.6x3.9mm, Pitch 1.27mm, IPC High Density)
footprint M14A_M (SOIC, 14-Leads, Body 8.6x3.9mm, Pitch 1.27mm, IPC Low Density)
pins: 1 DI/RO1 (io), 2 VCC (power), 3 DE (in), 4 ~{RE} (in), 5 GND (power), 6 NC, 7 DI/RO2 (io), 8 NC, 9 NC, 10 DO/RI2+ (io), 11 DO/RI2- (io), 12 DO/RI1- (io), 13 DO/RI1+ (io), 14 NC

## DS36C200MX
designator U?
Dual High Speed Bi-Directional Differential Transceiver, 14-pin Narrow SOIC; PartNumber: DS36C200MX; Manufacturer: National Semiconductor; PackageTopMarking: NSUZXYTTE#*DS36C200M; PowerWise: N; CompType: Interface IC; Published: 1-Mar-2010; DatasheetVersion: Feb-2005; PackageVersion: revJ, Jan-1996; PackageReference: M14A; Publisher: Altium Limited; PackageDescription: Molded Package S.O., .150in Wide, 14 Lead; RoHS: N; PinCount: 14; Code_JEDEC: MS-012AB; Code_IPC: SOIC127P600-14; ComponentLink1Description: DS36C200 Datasheet; ComponentLink1URL: http://www.national.com/ds/DS/DS36C200.pdf; ComponentLink2Description: DS36C200 Web Page; ComponentLink2URL: http://www.national.com/pf/DS/DS36C200.html; ComponentLink3Description: M14A Package Page; ComponentLink3URL: http://www.national.com/packaging/folders/m14a.html
footprint M14A_N (SOIC, 14-Leads, Body 8.6x3.9mm, Pitch 1.27mm, IPC Medium Density)
footprint M14A_L (SOIC, 14-Leads, Body 8.6x3.9mm, Pitch 1.27mm, IPC High Density)
footprint M14A_M (SOIC, 14-Leads, Body 8.6x3.9mm, Pitch 1.27mm, IPC Low Density)
pins: 1 DI/RO1 (io), 2 VCC (power), 3 DE (in), 4 ~{RE} (in), 5 GND (power), 6 NC, 7 DI/RO2 (io), 8 NC, 9 NC, 10 DO/RI2+ (io), 11 DO/RI2- (io), 12 DO/RI1- (io), 13 DO/RI1+ (io), 14 NC

## DS36C278M
designator U?
Low Power Multipoint TIA/EIA-485 Transceiver, 8-pin Narrow SOIC; PartNumber: DS36C278M; Manufacturer: National Semiconductor; PackageTopMarking: NSZXTT*DS36C*278M; PowerWise: N; CompType: Interface IC; Published: 4-Dec-2008; DatasheetVersion: Jul-1998; PackageVersion: revM, May-2009; PackageReference: M08A; Publisher: Altium Limited; PackageDescription: SOIC Narrow, 4.9 x 3.9 x 1.45mm, 8 Lead, 1.27mm Pitch; RoHS: N; PinCount: 8; Code_JEDEC: MS-012-AA; Code_IPC: SOIC127P600-8; ComponentLink1Description: DS36C278 Datasheet; ComponentLink1URL: http://www.national.com/ds/DS/DS36C278.pdf; ComponentLink2Description: DS36C278 Web Page; ComponentLink2URL: http://www.national.com/pf/DS/DS36C278.html; ComponentLink3Description: M08A Package Page; ComponentLink3URL: http://www.national.com/packaging/folders/m08a.html
footprint M08A_N (SOIC, 8-Leads, Body 4.9x3.9mm, Pitch 1.27mm, IPC Medium Density)
footprint M08A_L (SOIC, 8-Leads, Body 4.9x3.9mm, Pitch 1.27mm, IPC High Density)
footprint M08A_M (SOIC, 8-Leads, Body 4.9x3.9mm, Pitch 1.27mm, IPC Low Density)
pins: 1 RO (out), 2 ~{RE} (in), 3 DE (in), 4 DI (in), 5 GND (power), 6 DO/RI (io), 7 ~{DO}/~{RI} (io), 8 VCC (power)

## DS36C278MX
designator U?
Low Power Multipoint TIA/EIA-485 Transceiver, 8-pin Narrow SOIC; PartNumber: DS36C278MX; Manufacturer: National Semiconductor; PackageTopMarking: NSZXTT*DS36C*278M; PowerWise: N; CompType: Interface IC; Published: 1-Mar-2010; DatasheetVersion: Jul-1998; PackageVersion: revM, May-2009; PackageReference: M08A; Publisher: Altium Limited; PackageDescription: SOIC Narrow, 4.9 x 3.9 x 1.45mm, 8 Lead, 1.27mm Pitch; RoHS: N; PinCount: 8; Code_JEDEC: MS-012-AA; Code_IPC: SOIC127P600-8; ComponentLink1Description: DS36C278 Datasheet; ComponentLink1URL: http://www.national.com/ds/DS/DS36C278.pdf; ComponentLink2Description: DS36C278 Web Page; ComponentLink2URL: http://www.national.com/pf/DS/DS36C278.html; ComponentLink3Description: M08A Package Page; ComponentLink3URL: http://www.national.com/packaging/folders/m08a.html
footprint M08A_N (SOIC, 8-Leads, Body 4.9x3.9mm, Pitch 1.27mm, IPC Medium Density)
footprint M08A_L (SOIC, 8-Leads, Body 4.9x3.9mm, Pitch 1.27mm, IPC High Density)
footprint M08A_M (SOIC, 8-Leads, Body 4.9x3.9mm, Pitch 1.27mm, IPC Low Density)
pins: 1 RO (out), 2 ~{RE} (in), 3 DE (in), 4 DI (in), 5 GND (power), 6 DO/RI (io), 7 ~{DO}/~{RI} (io), 8 VCC (power)

## DS36C278TM
designator U?
Low-Power Multipoint EIA-RS-485 Transceiver, 8-pin Narrow SOIC; PartNumber: DS36C278TM; Manufacturer: National Semiconductor; PackageTopMarking: NSZXTT*36C27*8TM; PowerWise: N; CompType: Interface IC; Published: 4-Dec-2008; DatasheetVersion: Jul-1998; PackageVersion: revM, May-2009; PackageReference: M08A; Publisher: Altium Limited; PackageDescription: SOIC Narrow, 4.9 x 3.9 x 1.45mm, 8 Lead, 1.27mm Pitch; Supplier 1: Farnell; Supplier Part Number 1: 9494022; RoHS: N; PinCount: 8; Code_JEDEC: MS-012-AA; Code_IPC: SOIC127P600-8; ComponentLink1Description: DS36C278 Datasheet; ComponentLink1URL: http://www.national.com/ds/DS/DS36C278.pdf; ComponentLink2Description: DS36C278 Web Page; ComponentLink2URL: http://www.national.com/pf/DS/DS36C278.html; ComponentLink3Description: M08A Package Page; ComponentLink3URL: http://www.national.com/packaging/folders/m08a.html
footprint M08A_N (SOIC, 8-Leads, Body 4.9x3.9mm, Pitch 1.27mm, IPC Medium Density)
footprint M08A_L (SOIC, 8-Leads, Body 4.9x3.9mm, Pitch 1.27mm, IPC High Density)
footprint M08A_M (SOIC, 8-Leads, Body 4.9x3.9mm, Pitch 1.27mm, IPC Low Density)
pins: 1 RO (out), 2 ~{RE} (in), 3 DE (in), 4 DI (in), 5 GND (power), 6 DO/RI (io), 7 ~{DO}/~{RI} (io), 8 VCC (power)

## DS36C278TM/NOPB
designator U?
Low Power Multipoint TIA/EIA-485 Transceiver, 8-pin Narrow SOIC, Pb-Free; PartNumber: DS36C278TM/NOPB; Manufacturer: National Semiconductor; PackageTopMarking: NSZXTT*36C27*8TM; PowerWise: N; CompType: Interface IC; Published: 1-Mar-2010; DatasheetVersion: Jul-1998; PackageVersion: revM, May-2009; PackageReference: M08A; Publisher: Altium Limited; PackageDescription: SOIC Narrow, 4.9 x 3.9 x 1.45mm, 8 Lead, 1.27mm Pitch; Supplier 1: Digi-Key; Supplier Part Number 1: DS36C278TM-ND; Supplier 2: Farnell; Supplier Part Number 2: 1263939; RoHS: Y; PinCount: 8; Code_JEDEC: MS-012-AA; Code_IPC: SOIC127P600-8; ComponentLink1Description: DS36C278 Datasheet; ComponentLink1URL: http://www.national.com/ds/DS/DS36C278.pdf; ComponentLink2Description: DS36C278 Web Page; ComponentLink2URL: http://www.national.com/pf/DS/DS36C278.html; ComponentLink3Description: M08A Package Page; ComponentLink3URL: http://www.national.com/packaging/folders/m08a.html
footprint M08A_N (SOIC, 8-Leads, Body 4.9x3.9mm, Pitch 1.27mm, IPC Medium Density)
footprint M08A_L (SOIC, 8-Leads, Body 4.9x3.9mm, Pitch 1.27mm, IPC High Density)
footprint M08A_M (SOIC, 8-Leads, Body 4.9x3.9mm, Pitch 1.27mm, IPC Low Density)
pins: 1 RO (out), 2 ~{RE} (in), 3 DE (in), 4 DI (in), 5 GND (power), 6 DO/RI (io), 7 ~{DO}/~{RI} (io), 8 VCC (power)

## DS36C278TMX
designator U?
Low Power Multipoint TIA/EIA-485 Transceiver, 8-pin Narrow SOIC; PartNumber: DS36C278TMX; Manufacturer: National Semiconductor; PackageTopMarking: NSZXTT*36C27*8TM; PowerWise: N; CompType: Interface IC; Published: 1-Mar-2010; DatasheetVersion: Jul-1998; PackageVersion: revM, May-2009; PackageReference: M08A; Publisher: Altium Limited; PackageDescription: SOIC Narrow, 4.9 x 3.9 x 1.45mm, 8 Lead, 1.27mm Pitch; RoHS: N; PinCount: 8; Code_JEDEC: MS-012-AA; Code_IPC: SOIC127P600-8; ComponentLink1Description: DS36C278 Datasheet; ComponentLink1URL: http://www.national.com/ds/DS/DS36C278.pdf; ComponentLink2Description: DS36C278 Web Page; ComponentLink2URL: http://www.national.com/pf/DS/DS36C278.html; ComponentLink3Description: M08A Package Page; ComponentLink3URL: http://www.national.com/packaging/folders/m08a.html
footprint M08A_N (SOIC, 8-Leads, Body 4.9x3.9mm, Pitch 1.27mm, IPC Medium Density)
footprint M08A_L (SOIC, 8-Leads, Body 4.9x3.9mm, Pitch 1.27mm, IPC High Density)
footprint M08A_M (SOIC, 8-Leads, Body 4.9x3.9mm, Pitch 1.27mm, IPC Low Density)
pins: 1 RO (out), 2 ~{RE} (in), 3 DE (in), 4 DI (in), 5 GND (power), 6 DO/RI (io), 7 ~{DO}/~{RI} (io), 8 VCC (power)

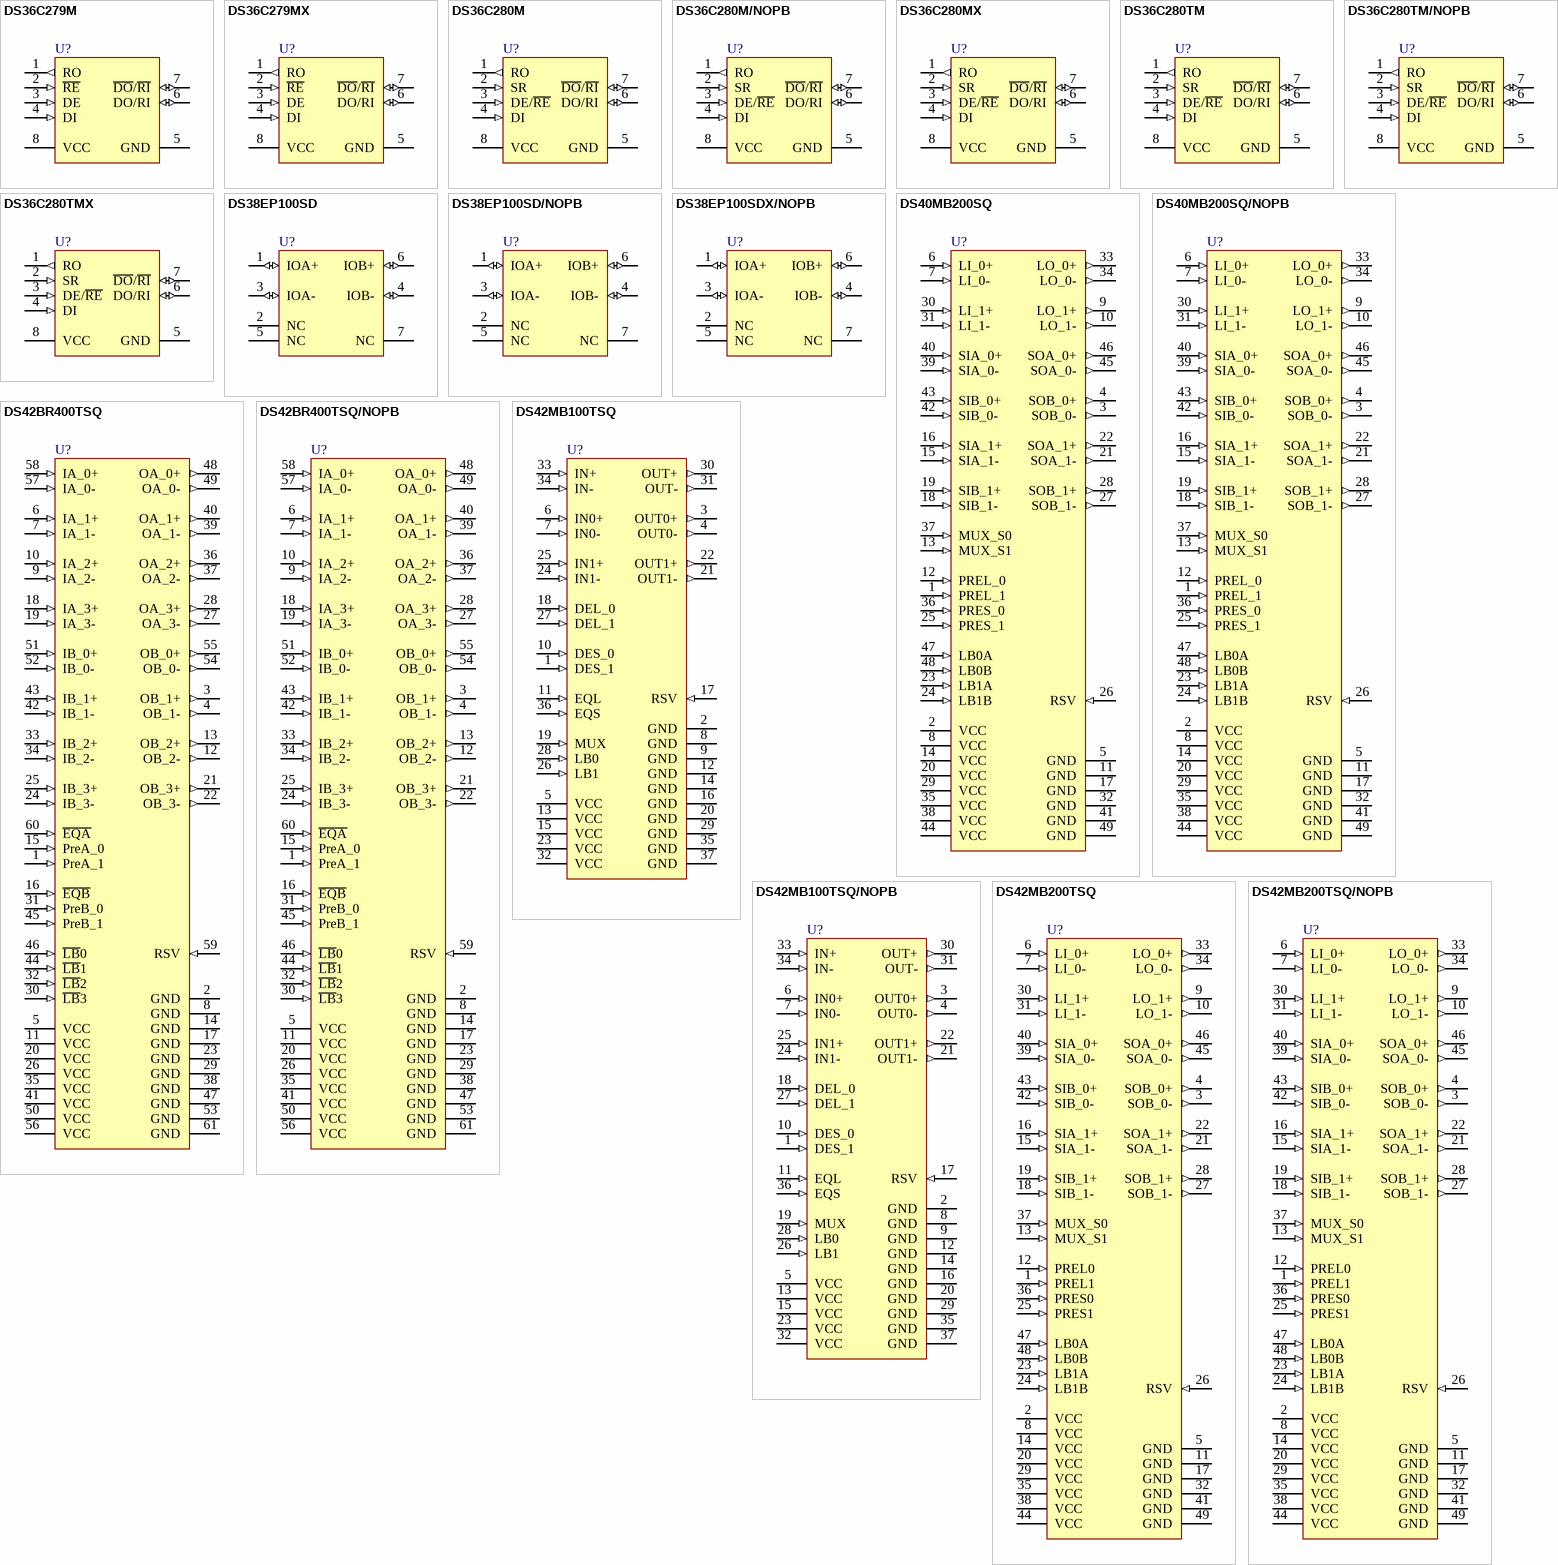
[diagram p23: symbols DS36C279M to DS42MB200TSQ/NOPB]

## DS36C279M
designator U?
Low Power TIA/EIA-485 Transceiver with Sleep Mode, 8-pin Narrow SOIC; PartNumber: DS36C279M; Manufacturer: National Semiconductor; PackageTopMarking: NSZXTT*36C27*9M; PowerWise: N; CompType: Interface IC; Published: 4-Dec-2008; DatasheetVersion: Jul-2000; PackageVersion: revM, May-2009; PackageReference: M08A; Publisher: Altium Limited; PackageDescription: SOIC Narrow, 4.9 x 3.9 x 1.45mm, 8 Lead, 1.27mm Pitch; RoHS: N; PinCount: 8; Code_JEDEC: MS-012-AA; Code_IPC: SOIC127P600-8; ComponentLink1Description: DS36C279 Datasheet; ComponentLink1URL: http://www.national.com/ds/DS/DS36C279.pdf; ComponentLink2Description: DS36C279 Web Page; ComponentLink2URL: http://www.national.com/pf/DS/DS36C279.html; ComponentLink3Description: M08A Package Page; ComponentLink3URL: http://www.national.com/packaging/folders/m08a.html
footprint M08A_N (SOIC, 8-Leads, Body 4.9x3.9mm, Pitch 1.27mm, IPC Medium Density)
footprint M08A_L (SOIC, 8-Leads, Body 4.9x3.9mm, Pitch 1.27mm, IPC High Density)
footprint M08A_M (SOIC, 8-Leads, Body 4.9x3.9mm, Pitch 1.27mm, IPC Low Density)
pins: 1 RO (out), 2 ~{RE} (in), 3 DE (in), 4 DI (in), 5 GND (power), 6 DO/RI (io), 7 ~{DO}/~{RI} (io), 8 VCC (power)